# EAGLE library part 691243310006 (library Wurth_Connectors_WR-TBL Rising Cage Clamp)
WR-TBL Serie 2433 - 3.81 mm Horizontal Entry Modular w. Rising Cage Clamp KIND PROPERTIES Pitch 3.81 mm MATERIAL PROPERTIES Insulator Material PA6/66;​ PA66 Insulator Flammability Rating UL94 V-0 Insulator Color Green Contact Material Copper Alloy Contact Plating Nickel over Tin;​ Tin over Nickel Contact Type Stamped Terminal Screw Material Steel Terminal Screw Plating Zinc Wire Guard Material Copper Alloy GENERAL INFORMATION Operating Temperature -30 up to +120 °C Compliance Lead free / RoHS;​ ROHS & Reach ELECTRICAL PROPERTIES IR UL 10 A IR VDE 10 A Working Voltage [UL] 300 V (AC) Working Voltage [VDE] 130 V (AC) Withstanding Voltage [UL] 1600 V (AC) Withstanding Voltage [VDE] 1250 V (AC) Contact Resistance 20 mΩ Contact Resistance [UL] 20 mΩ Contact Resistance [VDE] 20 mΩ MECHANICAL PROPERTIES Wire Strip Length 6 (mm);​ 6 Screw M2 CERTIFICATION UL Approval E150931 CAT. N°: CPA (3);​ E150931 CAT.N°: CPA (3);​ E150931 CAT. N°: CPA(3);​ E150931 VDE Approval 40015434 VDE Approval 40015434 TYPE: CPA PACKAGING PROPERTIES Packaging Box <https://katalog.we-online.com/media/images/v2/o32902v209%20Family_WR-TBL2_series2433.jpg> Details see: https://katalog.we-online.com/en/em/TBL_3_81_2433_HORIZONTAL_ENTRY_MODULAR_W_RISING_CAGE_6912433100xx Updated by Ella Wu 2019-11-21 2019(C) Wurth Elektronik
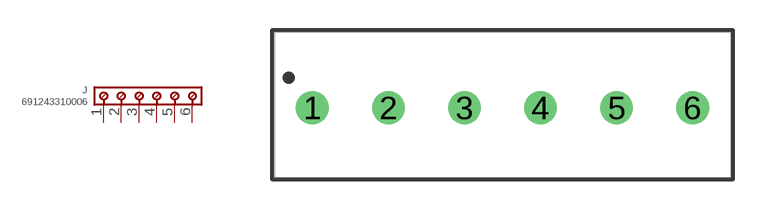
[diagram p18: symbol with the pads of 691243310006; footprint 691243310006]

Designator prefix J

## 691243310006 (DATASHEET-URL: https://www.we-online.com/redexpert/spec/691243310006?ae; IR-UL: 10A; IR-VDE: 10A; MOUNT: THT; PART-NUMBER: 691243310006; PINS: 5; PITCH: 3.81mm; TYPE: Horizontal; WIRE: 30 to 16 (AWG) 0.05 to 1.31 (mm²); WORKING-VOLTAGE-UL: 300V (AC); WORKING-VOLTAGE-VDE: 130V (AC))  [691243310006]
1  1  pas
2  2  pas
3  3  pas
4  4  pas
5  5  pas
6  6  pas

## Footprint 691243310006 (pad centres in mm)
WR-TBL Serie 2433 - 3.81 mm Horizontal Entry Modular w. Rising Cage Clamp Max Height =9.1mm , Pitch 3.81mm , 6 Pins
drill 1.1: 1 -9.525,0; 2 -5.715,0; 3 -1.905,0; 4 1.905,0; 5 5.715,0; 6 9.525,0